# Altium integrated library Conn RF.IntLib: 8 symbols
Pins are listed as number, name and electrical type; pins without a type are passive.

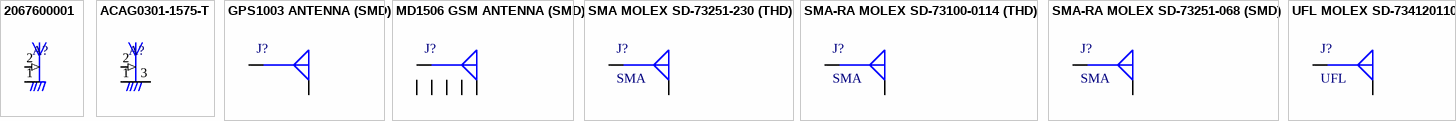
[diagram p0: symbols 2067600001 to UFL MOLEX SD-734120110]

## 2067600001
designator A?
698MHz-2.7GHz Cellular Ceramic Antenna, Low-profile, SMT; PartNumber: Molex 2067600001
footprint ANT-2067600001
pins: 1 2 (power), 2 1 (in)

## ACAG0301-1575-T
designator A?
1.575GHz GPS Chip RF Antenna 1.565GHz ~ 1.585GHz 4.18dBi Solder Surface Mount; MP: ACAG0301-1575-T; MF: Abracon LLC; Availability: Unavailable; Package: None; Value: *; Price: None; SnapEDA_Link: https://www.snapeda.com/parts/ACAG0301-1575-T/Abracon%20LLC/view-part/3077605/?ref=snap; PartNumber: ACAG0301-1575-T
footprint ANT-ACAG0301-1575-T
pins: 1 2 (power), 2 1 (in), 3 2 (power)

## GPS1003 ANTENNA (SMD)
designator J?, comment GPS1003  (value not drawn)
PartNumber: GPS1003
footprint RAINSUN GPS1003
pins: 1 6, 2 G

## MD1506 GSM ANTENNA (SMD)
designator J?, comment MD1506  (value not drawn)
PartNumber: MD1506
footprint RAINSUN MD1506
pins: 1 G, 2 G, 3 G, 4 G, 5 G, 6

## SMA MOLEX SD-73251-230 (THD)
designator J?, comment SMA
PartNumber: MOLEX SD-73251-230
footprint MOLEX SD-73251-230
pins: G, S

## SMA-RA MOLEX SD-73100-0114 (THD)
designator J?, comment SMA
PartNumber: MOLEX SD-73100-0114
footprint MOLEX SD-73100-0114
pins: G, S

## SMA-RA MOLEX SD-73251-068 (SMD)
designator J?, comment SMA
PartNumber: MOLEX SD-73251-068
footprint MOLEX SD-73251-068
pins: G, S

## UFL MOLEX SD-734120110
designator J?, comment UFL
PartNumber: MOLEX SD-734120110
footprint MOLEX SD-734120110
pins: G, S